# Altium footprint library TO.PcbLib: 17 footprints (part 2 of 2)
Each footprint in its own frame and in the unit in brackets; x right, y up, seen from the top. Pads: shape width x height; smd on the part's side, far side on the other; paste and mask are expansions set on the pad; w line width, h text height; cw(c..) or ccw(c..) is an arc to the next point about the centre after c.
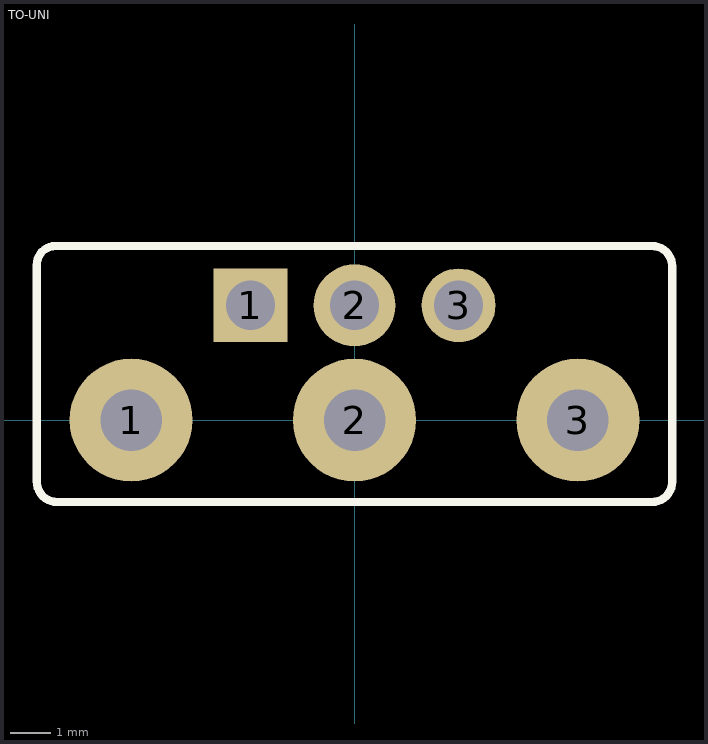
[diagram p1: the footprint, top view; thin cyan lines are the x and y axes]

## TO-UNI [mm] "3-Lead Plastic TO-247"
height 20
pads (6):
  round 3 hole 1.5: 1(-5.45,0) 2(0,0) 3(5.45,0)
  rect 1.8x1.8 hole 1.2: 1(-2.54,2.8)
  round 2 hole 1.2: 2(0,2.8)
  round 1.8 hole 1.2: 3(2.54,2.8)
Top Overlay:
  lines w0.2: -7.293,4.249 ccw(c-7.293,3.792) -7.75,3.792 -7.75,-1.5 ccw(c-7.25,-1.5) -7.25,-2 7.25,-2 ccw(c7.25,-1.5) 7.75,-1.5 7.75,3.75 ccw(c7.25,3.75) 7.25,4.25 ; -7.268,4.25 7.275,4.25
Mechanical 1:
  lines w0.1: -7.775,3.75 cw(c-7.275,3.75) -7.275,4.25 7.225,4.25 cw(c7.225,3.75) 7.725,3.75 ; -7.75,3.75 -7.75,-1.5 ccw(c-7.25,-1.5) -7.25,-2 7.25,-2 ccw(c7.25,-1.5) 7.75,-1.5 7.75,3.75
Mechanical 15:
  lines w0.1: -0.5,0 0.5,0 ; 0,-0.5 0,0.5 ; -7.75,-1.5 ccw(c-7.25,-1.5) -7.25,-2 7.25,-2 ccw(c7.25,-1.5) 7.75,-1.5 7.75,3.75 ccw(c7.25,3.75) 7.25,4.25 -7.25,4.25 ccw(c-7.25,3.75) -7.75,3.75 -7.75,-1.5
3D body "User Library-TO-247H.STEP": height 3.9, standoff -8, extent -7.75,-0.3 7.75,28.1